# EAGLE library part CONN-RECT-16PIN-2ROW (library FirePick)
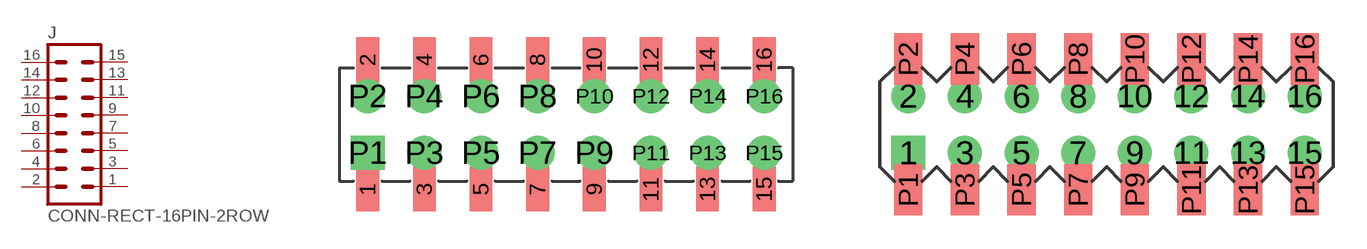
[diagram p5: symbol with the pads of CONN-SOCKET-2.54MM-16PIN-2ROW; footprints CONN-SOCKET-2.54MM-16PIN-2ROW, CONN-RECT-2.54MM-16PIN-2ROW-SMTH]

Designator prefix J

## CONN-RECT-16PIN-2ROWSOCKET  [CONN-SOCKET-2.54MM-16PIN-2ROW]
1  1  pas
2  2  pas
3  3  pas
4  4  pas
5  5  pas
6  6  pas
7  7  pas
8  8  pas
9  9  pas
10  10  pas
11  11  pas
12  12  pas
13  13  pas
14  14  pas
15  15  pas
16  16  pas

## CONN-RECT-16PIN-2ROW  [CONN-RECT-2.54MM-16PIN-2ROW-SMTH]
Pads as for CONN-SOCKET-2.54MM-16PIN-2ROW

## CONN-RECT-16PIN-2ROWSIDE  [CONN-RECT-2.54MM-16PIN-2ROW-SIDE]
Pads as for CONN-SOCKET-2.54MM-16PIN-2ROW

## Footprint CONN-SOCKET-2.54MM-16PIN-2ROW (pad centres in mm)
smd 1.02 x 2: 1 -8.89,-2.9; 2 -8.89,2.9; 3 -6.35,-2.9; 4 -6.35,2.9; 5 -3.81,-2.9; 6 -3.81,2.9; 7 -1.27,-2.9; 8 -1.27,2.9; 9 1.27,-2.9; 10 1.27,2.9; 11 3.81,-2.9; 12 3.81,2.9; 13 6.35,-2.9; 14 6.35,2.9; 15 8.89,-2.9; 16 8.89,2.9
drill 1.016 square: P1 -8.89,-1.27
drill 1.016: P2 -8.89,1.27; P3 -6.35,-1.27; P4 -6.35,1.27; P5 -3.81,-1.27; P6 -3.81,1.27; P7 -1.27,-1.27; P8 -1.27,1.27; P9 1.27,-1.27; P10 1.27,1.27; P11 3.81,-1.27; P12 3.81,1.27; P13 6.35,-1.27; P14 6.35,1.27; P15 8.89,-1.27; P16 8.89,1.27

## Footprint CONN-RECT-2.54MM-16PIN-2ROW-SMTH (pad centres in mm)
drill 1.016 square: 1 -8.89,-1.27
drill 1.016: 2 -8.89,1.27; 3 -6.35,-1.27; 4 -6.35,1.27; 5 -3.81,-1.27; 6 -3.81,1.27; 7 -1.27,-1.27; 8 -1.27,1.27; 9 1.27,-1.27; 10 1.27,1.27; 11 3.81,-1.27; 12 3.81,1.27; 13 6.35,-1.27; 14 6.35,1.27; 15 8.89,-1.27; 16 8.89,1.27
smd 1.27 x 2.3: P1 -8.89,-2.93; P2 -8.89,2.93; P3 -6.35,-2.93; P4 -6.35,2.93; P5 -3.81,-2.93; P6 -3.81,2.93; P7 -1.27,-2.93; P8 -1.27,2.93; P9 1.27,-2.93; P10 1.27,2.93; P11 3.81,-2.93; P12 3.81,2.93; P13 6.35,-2.93; P14 6.35,2.93; P15 8.89,-2.93; P16 8.89,2.93

## Footprint CONN-RECT-2.54MM-16PIN-2ROW-SIDE (pad centres in mm)
smd 1.27 x 4.2: 1 -8.89,-0.02; 3 -6.35,-0.02; 5 -3.81,-0.02; 7 -1.27,-0.02; 9 1.27,-0.02; 11 3.81,-0.02; 13 6.35,-0.02; 15 8.89,-0.02
smd 1.27 x 4.2 bottom: 2 -8.89,-0.02; 4 -6.35,-0.02; 6 -3.81,-0.02; 8 -1.27,-0.02; 10 1.27,-0.02; 12 3.81,-0.02; 14 6.35,-0.02; 16 8.89,-0.02